# Altium footprint library CAPAE1360X1450N.PcbLib: 1 footprints
Each footprint in its own frame and in the unit in brackets; x right, y up, seen from the top. Pads: shape width x height; smd on the part's side, far side on the other; paste and mask are expansions set on the pad; w line width, h text height; cw(c..) or ccw(c..) is an arc to the next point about the centre after c.
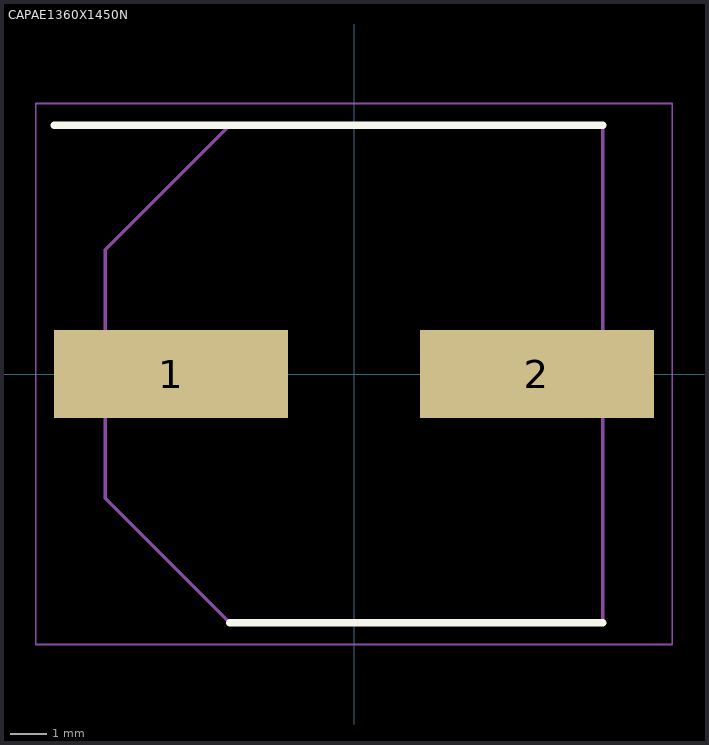
[diagram p0: the footprint, top view; thin cyan lines are the x and y axes]

## CAPAE1360X1450N [mm]
pads (2):
  rect 6.4x2.4 smd: 1(-5,0) 2(5,0)
Top Overlay:
  lines w0.2: -8.2,6.8 6.8,6.8 ; -3.4,-6.8 6.8,-6.8
Mechanical 15:
  lines w0.1: -6.8,-3.4 -6.8,3.4 -3.4,6.8 6.8,6.8 6.8,-6.8 -3.4,-6.8 -6.8,-3.4
Mechanical 20:
  lines w0.05: -8.7,-7.4 8.7,-7.4 8.7,7.4 -8.7,7.4 -8.7,-7.4